# EAGLE library part DF12-10-FEMALE (library Hirose_DF12)
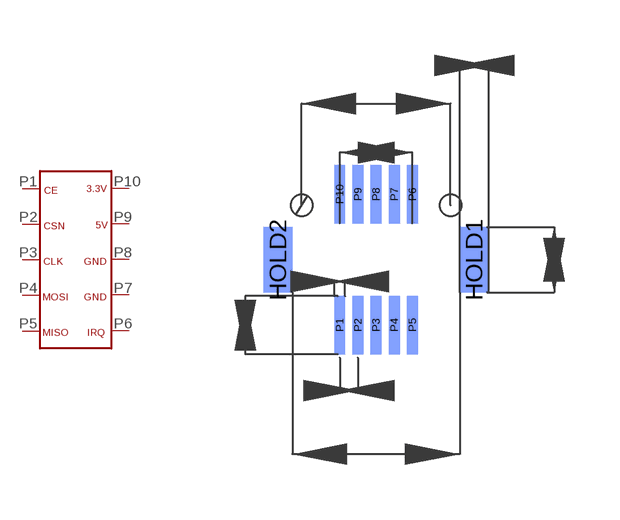
[diagram p1: symbol with the pads of DF12-10-FEMALE; footprint DF12-10-FEMALE]

Designator prefix -

## DF12-10-FEMALE  [DF12-10-FEMALE]
P1  P1  pas
P2  P2  pas
P3  P3  pas
P4  P4  pas
P5  P5  pas
P6  P6  pas
P7  P7  pas
P8  P8  pas
P9  P9  pas
P10  P10  pas

## Footprint DF12-10-FEMALE (pad centres in mm)
smd 0.8 x 1.8 bottom: HOLD1 2.7,0; HOLD2 -2.7,0
smd 0.3 x 1.6 bottom: P1 -1,-1.8; P2 -0.5,-1.8; P3 0,-1.8; P4 0.5,-1.8; P5 1,-1.8; P6 1,1.8; P7 0.5,1.8; P8 0,1.8; P9 -0.5,1.8; P10 -1,1.8
hole 0.6 at -2.05,1.5
hole 0.6 at 2.05,1.5